# Altium footprint library DF40GB-30DP-0.4V.PcbLib: 1 footprints
Each footprint in its own frame and in the unit in brackets; x right, y up, seen from the top. Pads: shape width x height; smd on the part's side, far side on the other; paste and mask are expansions set on the pad; w line width, h text height; cw(c..) or ccw(c..) is an arc to the next point about the centre after c.
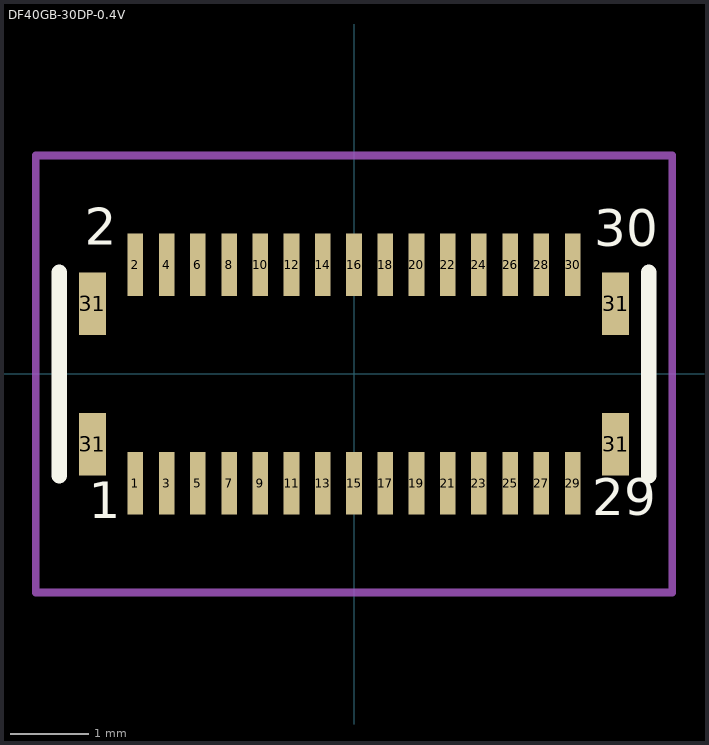
[diagram p0: the footprint, top view; thin cyan lines are the x and y axes]

## DF40GB-30DP-0.4V [mm]
pads (34):
  rect 0.2x0.8 smd: 1(-2.8,-1.4) 2(-2.8,1.4) 3(-2.4,-1.4) 4(-2.4,1.4) 5(-2,-1.4) 6(-2,1.4) 7(-1.6,-1.4) 8(-1.6,1.4) 9(-1.2,-1.4) 10(-1.2,1.4) 11(-0.8,-1.4) 12(-0.8,1.4) 13(-0.4,-1.4) 14(-0.4,1.4) 15(0,-1.4) 16(0,1.4) 17(0.4,-1.4) 18(0.4,1.4) 19(0.8,-1.4) 20(0.8,1.4) 21(1.2,-1.4) 22(1.2,1.4) 23(1.6,-1.4) 24(1.6,1.4) 25(2,-1.4) 26(2,1.4) 27(2.4,-1.4) 28(2.4,1.4) 29(2.8,-1.4) 30(2.8,1.4)
  rect 0.35x0.8 smd: 31(-3.35,-0.9) 31(-3.35,0.9) 31(3.35,-0.9) 31(3.35,0.9)
Top Overlay:
  lines w0.2: -3.775,-1.3 -3.775,1.3 ; 3.775,-1.3 3.775,1.3
  text "29" at 3.05,-1.965 h0.8
  text "1" at -3.4,-2 h0.8
  text "30" at 3.075,1.485 h0.8
  text "2" at -3.45,1.5 h0.8
Top Courtyard:
  lines w0.1: -4.075,-2.8 4.075,-2.8 4.075,2.8 -4.075,2.8 -4.075,-2.8
3D body "DF40GB-30DP-0.4V.stp": height 1.14, standoff 0, extent -3.58,-1.485 3.58,1.485